# Altium footprint library PCB - LEADLESS - DFN - DIODES V-DFN3020-13 A.PCBLIB: 1 footprints
Each footprint in its own frame and in the unit in brackets; x right, y up, seen from the top. Pads: shape width x height; smd on the part's side, far side on the other; paste and mask are expansions set on the pad; w line width, h text height; cw(c..) or ccw(c..) is an arc to the next point about the centre after c.
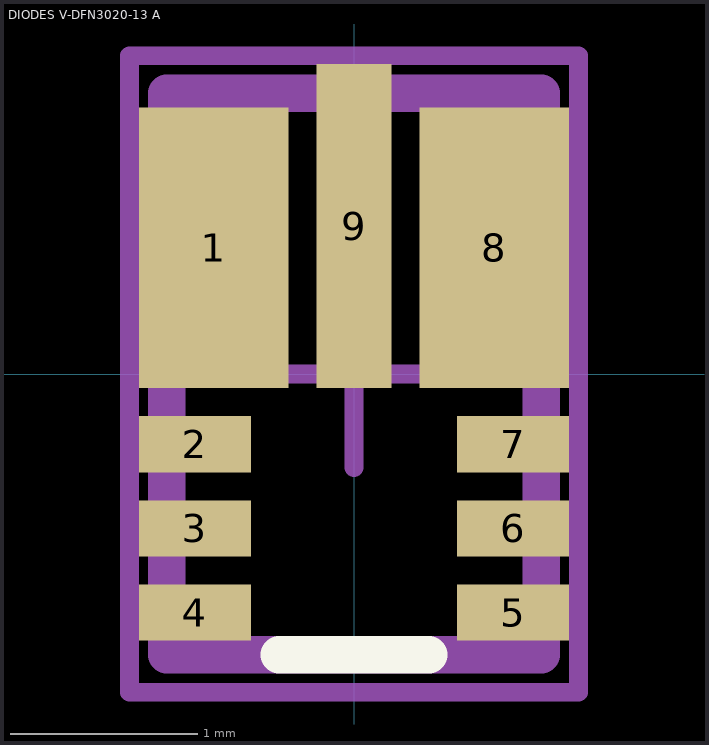
[diagram p0: the footprint, top view; thin cyan lines are the x and y axes]

## DIODES V-DFN3020-13 A [mm] "DFN 3x2MM"
height 0.85
pads (9):
  rect 0.8x1.5 smd mask+0: 1(-0.75,0.675) 8(0.75,0.675)
  rect 0.6x0.3 smd mask+0: 2(-0.85,-0.375) 3(-0.85,-0.825) 4(-0.85,-1.275) 5(0.85,-1.275) 6(0.85,-0.825) 7(0.85,-0.375)
  rect 0.4x1.73 smd mask+0: 9(0,0.79)
Top Overlay:
  lines w0.2: -0.4,-1.5 0.4,-1.5
Top Component Center:
  lines w0.1: -0.5,0 0.5,0 ; 0,-0.5 0,0.5
Top Component Outline:
  lines w0.2: -1,-1.5 1,-1.5 1,1.5 -1,1.5 -1,-1.5
Top Courtyard (Mech15):
  lines w0.1: -1.2,-1.7 1.2,-1.7 1.2,1.7 -1.2,1.7 -1.2,-1.7
3D body "Diodes Inc V-DFN3020-13 A.step": height 0.85, standoff 0, extent -1.03,-1.525 1.03,1.53